# EAGLE library part TI-TPS63805YFFR (library EagleLibrary)
Buck-Boost Converter
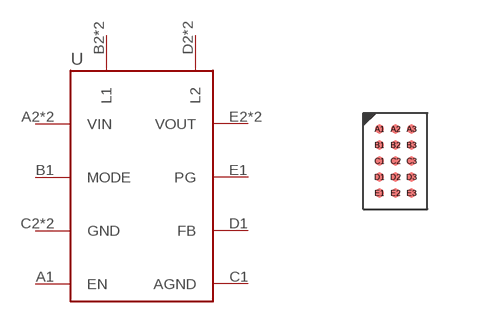
[diagram p10: symbol with the pads of TI-TPS63805YFFR; footprint TI-TPS63805YFFR]

Designator prefix U

## TI-TPS63805YFFR (MFG: Texas Instruments; PN: TPS63805YFFR)  [TI-TPS63805YFFR]
A1  EN
A2  VIN
A3  VIN
B1  MODE
B2  L1
B3  L1
C1  AGND
C2  GND
C3  GND
D1  FB
D2  L2
D3  L2
E1  PG
E2  VOUT
E3  VOUT

## Footprint TI-TPS63805YFFR (pad centres in mm)
smd 0.23 x 0.23: A1 -0.4,0.8; A2 0,0.8; A3 0.4,0.8; B1 -0.4,0.4; B2 0,0.4; B3 0.4,0.4; C1 -0.4,0; C2 0,0; C3 0.4,0; D1 -0.4,-0.4; D2 0,-0.4; D3 0.4,-0.4; E1 -0.4,-0.8; E2 0,-0.8; E3 0.4,-0.8